# EAGLE library part NAND01GW3B2B (library ICs)
1-Gbit, 2112-byte/1056-word page, 3V3, NAND flash memory
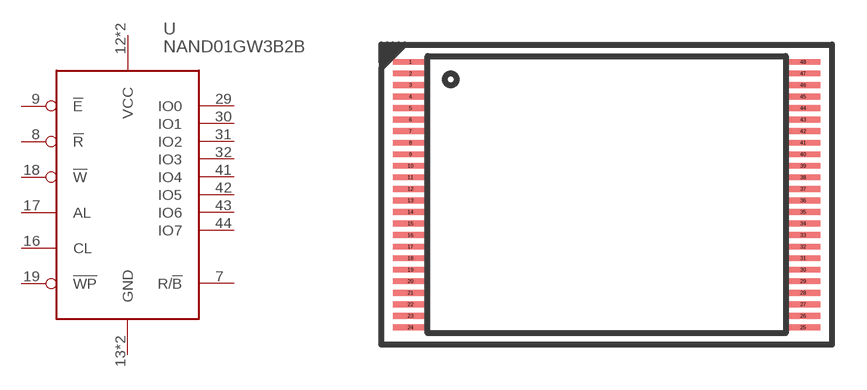
[diagram p39: symbol with the pads of USOP48_12X17MM; footprint USOP48_12X17MM]

Designator prefix U

## NAND01GW3B2BN6E (FARNELL: 1224403)  [USOP48_12X17MM]
7  R/!B
8  !R
9  !E
12  VCC
13  GND
16  CL
17  AL
18  !W
19  !WP
29  IO0
30  IO1
31  IO2
32  IO3
36  GND
37  VCC
41  IO4
42  IO5
43  IO6
44  IO7

## Footprint USOP48_12X17MM (pad centres in mm)
smd 1.5 x 0.25: 1 -8.5,5.75; 2 -8.5,5.25; 3 -8.5,4.75; 4 -8.5,4.25; 5 -8.5,3.75; 6 -8.5,3.25; 7 -8.5,2.75; 8 -8.5,2.25; 9 -8.5,1.75; 10 -8.5,1.25; 11 -8.5,0.75; 12 -8.5,0.25; 13 -8.5,-0.25; 14 -8.5,-0.75; 15 -8.5,-1.25; 16 -8.5,-1.75; 17 -8.5,-2.25; 18 -8.5,-2.75; 19 -8.5,-3.25; 20 -8.5,-3.75; 21 -8.5,-4.25; 22 -8.5,-4.75; 23 -8.5,-5.25; 24 -8.5,-5.75; 25 8.5,-5.75; 26 8.5,-5.25; 27 8.5,-4.75; 28 8.5,-4.25; 29 8.5,-3.75; 30 8.5,-3.25; 31 8.5,-2.75; 32 8.5,-2.25; 33 8.5,-1.75; 34 8.5,-1.25; 35 8.5,-0.75; 36 8.5,-0.25; 37 8.5,0.25; 38 8.5,0.75; 39 8.5,1.25; 40 8.5,1.75; 41 8.5,2.25; 42 8.5,2.75; 43 8.5,3.25; 44 8.5,3.75; 45 8.5,4.25; 46 8.5,4.75; 47 8.5,5.25; 48 8.5,5.75